# EAGLE library part PIC16F726 (library microchip)
PIC for Touch Panel
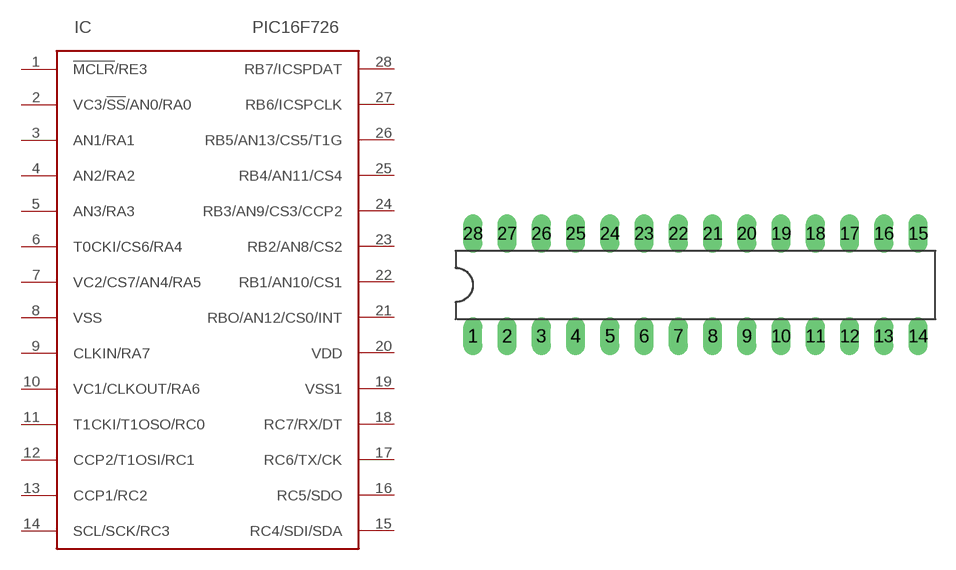
[diagram p32: symbol with the pads of DIL28-3; footprint DIL28-3]

Designator prefix IC

## PIC16F726  [DIL28-3]
1  !MCLR!/RE3  in
2  VC3/!SS!/AN0/RA0
3  AN1/RA1
4  AN2/RA2
5  AN3/RA3
6  T0CKI/CS6/RA4
7  VC2/CS7/AN4/RA5
8  VSS  pwr
9  CLKIN/RA7
10  VC1/CLKOUT/RA6
11  T1CKI/T1OSO/RC0
12  CCP2/T1OSI/RC1
13  CCP1/RC2
14  SCL/SCK/RC3
15  RC4/SDI/SDA
16  RC5/SDO
17  RC6/TX/CK
18  RC7/RX/DT
19  VSS1  pwr
20  VDD  pwr
21  RBO/AN12/CS0/INT
22  RB1/AN10/CS1
23  RB2/AN8/CS2
24  RB3/AN9/CS3/CCP2
25  RB4/AN11/CS4
26  RB5/AN13/CS5/T1G
27  RB6/ICSPCLK
28  RB7/ICSPDAT

## Footprint DIL28-3 (pad centres in mm)
Dual In Line package type P
drill 0.6 pad 1.422 long: 1 -16.51,-3.81; 2 -13.97,-3.81; 3 -11.43,-3.81; 4 -8.89,-3.81; 5 -6.35,-3.81; 6 -3.81,-3.81; 7 -1.27,-3.81; 8 1.27,-3.81; 9 3.81,-3.81; 10 6.35,-3.81; 11 8.89,-3.81; 12 11.43,-3.81; 13 13.97,-3.81; 14 16.51,-3.81; 15 16.51,3.81; 16 13.97,3.81; 17 11.43,3.81; 18 8.89,3.81; 19 6.35,3.81; 20 3.81,3.81; 21 1.27,3.81; 22 -1.27,3.81; 23 -3.81,3.81; 24 -6.35,3.81; 25 -8.89,3.81; 26 -11.43,3.81; 27 -13.97,3.81; 28 -16.51,3.81